# Altium footprint library rest (2).PCBLIB: 10 footprints
Each footprint in its own frame and in the unit in brackets; x right, y up, seen from the top. Pads: shape width x height; smd on the part's side, far side on the other; paste and mask are expansions set on the pad; w line width, h text height; cw(c..) or ccw(c..) is an arc to the next point about the centre after c.
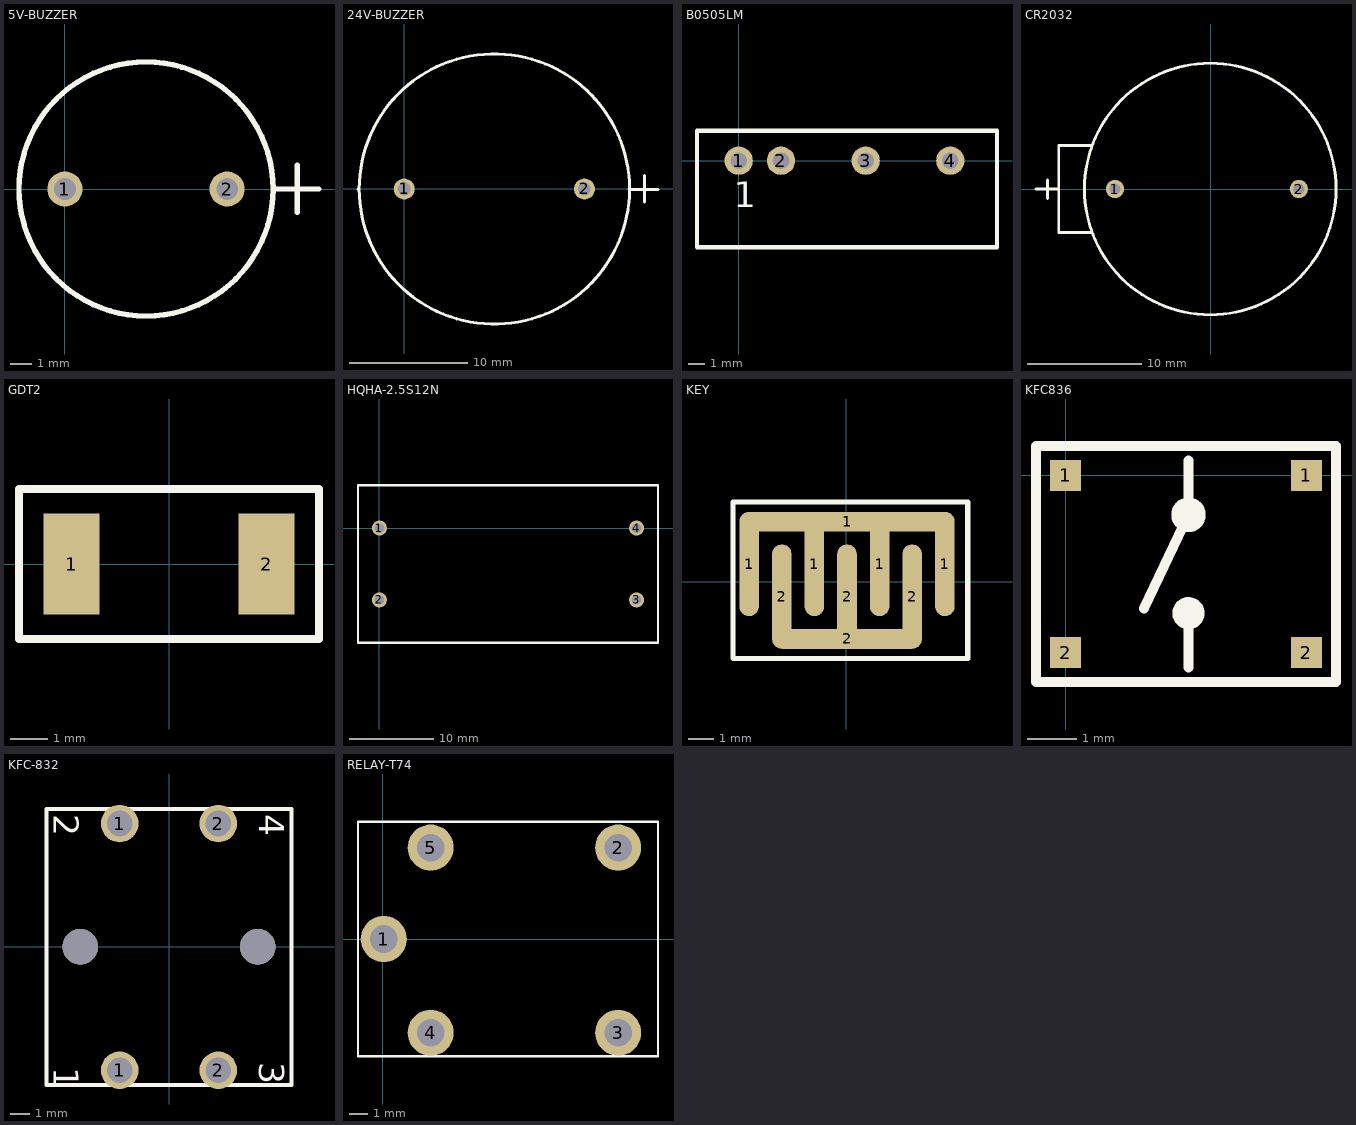
[diagram p0: the footprints below, top view; thin cyan lines are the x and y axes]

## 5V-BUZZER [mil]
pads (2):
  round 65 hole 40: 1(0,0) 2(300,0)
TopOverlay:
  circle w10: c150,0 r235
  lines w10: 385,0 470,0 ; 430,-43 430,44

## 24V-BUZZER [mil]
pads (2):
  round 70 hole 42: 1(0,0) 2(600,0)
TopOverlay:
  circle w10: c300,0 r450
  lines w10: -154,-1 -151,2 ; 749,0 750,-1 845,-1 ; 800,-43 800,45

## B0505LM [mm]
pads (4):
  round 1.7 hole 1: 1(0,0) 2(2.54,0) 3(7.62,0) 4(12.7,0)
TopOverlay:
  lines w0.254: -2.5,-5.2 -2.5,1.8 15.5,1.8 15.5,-5.2 -2.5,-5.2
  text "1" at -0.3,-2.8 h1.52

## CR2032 [mm]
pads (2):
  round 1.6 hole 1: 1(-8.382,0) 2(7.7,0)
TopOverlay:
  circle w0.254: c-0.05,0 r11
  lines w0.254: -15.291,0 -13.3,0 ; -14.3,-0.838 -14.3,0.787 ; -10.5,-3.8 -13.3,-3.8 -13.3,3.8 -10.5,3.8

## GDT2 [mm]
pads (2):
  rect 1.5x2.7 smd: 1(-2.6,0) 2(2.6,0)
TopOverlay:
  lines w0.203: -4,-2 -4,2 4,2 4,-2 -4,-2

## HQHA-2.5S12N [mil]
pads (4):
  round 70 hole 45: 1(0,0) 2(0,-335) 3(1200,-335) 4(1200,0)
TopOverlay:
  lines w10: -100,-535 -100,200 1300,200 1300,-535 -100,-535

## KEY [mil]
pads (9):
  oval 30x160 smd: 1(-148.82,27.56) 1(-48.82,27.56) 1(51.18,27.56) 1(151.18,27.56) 2(-98.82,-22.44) 2(1.18,-22.44) 2(101.18,-22.44)
  oval 330x30 smd: 1(1.18,92.56)
  oval 230x30 smd: 2(1.18,-87.44)
TopOverlay:
  lines w8: -173.82,-117.44 186.18,-117.44 186.18,122.56 -173.82,122.56 -173.82,-117.44

## KFC836 [mm]
pads (4):
  rect 0.635x0.635 smd: 1(0,0) 1(4.9,0) 2(0,-3.6) 2(4.9,-3.6)
TopOverlay:
  circle w0.254: c2.5,-0.8 r0.224
  circle w0.254: c2.5,-2.8 r0.2
  lines w0.203: 1.6,-2.7 2.5,-0.8 2.5,0.3 ; 2.5,-3.9 2.5,-2.8 ; -0.6,-4.2 5.5,-4.2 5.5,0.6 -0.6,0.6 -0.6,-4.2

## KFC-832 [mm] "微动开关"
pads (4):
  round 1.9 hole 1.3: 1(-2.5,-6.25) 1(-2.5,6.25) 2(2.5,-6.25) 2(2.5,6.25)
via 4.5,0 diameter 1.8 hole 1.8
via -4.5,0 diameter 1.8 hole 1.8
TopOverlay:
  lines w0.203: -6.2,-7 6.2,-7 6.2,7 -6.2,7 -6.2,-7
  text "1" at -5.842,-6.096 h1.27
  text "2" at -5.842,6.731 h1.27
  text "4" at 4.572,6.731 h1.27
  text "3" at 4.572,-5.842 h1.27

## RELAY-T74 [mm]
pads (5):
  round 2.5 hole 1.5: 1(0.051,0) 2(12.751,4.953) 3(12.751,-5.08) 4(2.591,-5.08) 5(2.591,4.953)
TopOverlay:
  lines w0.127: -1.346,-6.35 -1.346,6.35 14.91,6.35 14.91,-6.35 -1.346,-6.35